# EAGLE library part LMZ35003 (library texas)
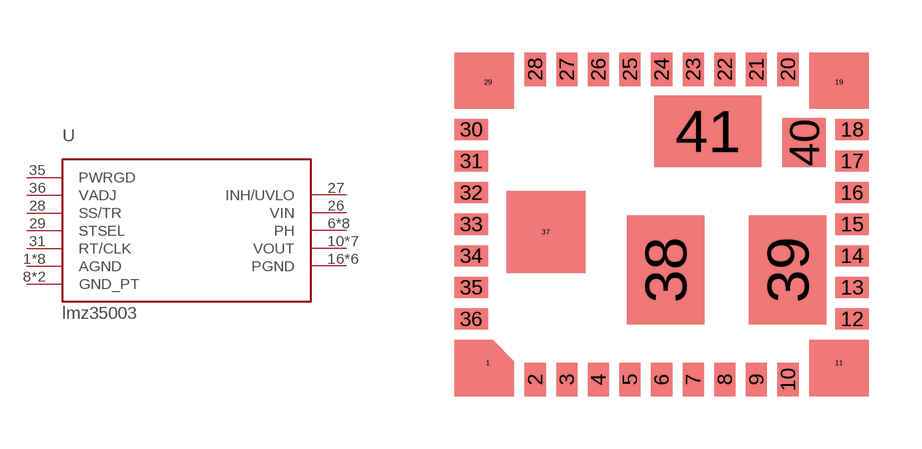
[diagram p0: symbol with the pads of S-PB1QFN-N41; footprint S-PB1QFN-N41]

Designator prefix U

## LMZ35003  [S-PB1QFN-N41]
1  AGND
4  AGND
5  AGND
6  PH
7  PH
8  GND_PT
9  GND_PT
10  VOUT
11  VOUT
12  VOUT
13  VOUT
14  VOUT
15  VOUT
16  PGND
17  PGND
18  PGND
19  PGND
20  PGND
21  PH
22  PH
23  PH
24  PH
26  VIN
27  INH/UVLO
28  SS/TR
29  STSEL
30  AGND
31  RT/CLK
32  AGND
33  AGND
34  AGND
35  PWRGD
36  VADJ
37  AGND
38  PH
39  VOUT
40  PGND
41  PH

## Footprint S-PB1QFN-N41 (pad centres in mm)
smd 0.1 x 0.1: 1 -4.95,-3.945; 11 5.05,-3.945; 19 5.05,4.055; 29 -4.95,4.055; 37 -3.3,-0.215
smd 0.6 x 0.95: 2 -3.6,-4.42; 3 -2.7,-4.42; 4 -1.8,-4.42; 5 -0.9,-4.42; 6 0,-4.42; 7 0.9,-4.42; 8 1.8,-4.42; 9 2.7,-4.42; 10 3.6,-4.42; 20 3.6,4.42; 21 2.7,4.42; 22 1.8,4.42; 23 0.9,4.42; 24 0,4.42; 25 -0.9,4.42; 26 -1.8,4.42; 27 -2.7,4.42; 28 -3.6,4.42
smd 0.95 x 0.6: 12 5.425,-2.695; 13 5.425,-1.795; 14 5.425,-0.895; 15 5.425,0.005; 16 5.425,0.905; 17 5.425,1.805; 18 5.425,2.705; 30 -5.425,2.705; 31 -5.425,1.805; 32 -5.425,0.905; 33 -5.425,0.005; 34 -5.425,-0.895; 35 -5.425,-1.795; 36 -5.425,-2.695
smd 2.2 x 3.1: 38 0.11,-1.295; 39 3.59,-1.295
smd 1.24 x 1.4: 40 4.06,2.335
smd 3.05 x 2.04: 41 1.32,2.655